# Altium schematic symbol library SnapEDAsch.SchLib: 1 symbol
Pins are listed as number, name and electrical type; pins without a type are passive.

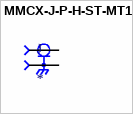
[diagram p0: symbol MMCX-J-P-H-ST-MT1]

## MMCX-J-P-H-ST-MT1
designator J
MMCX STRAIGHT, MIXED TECHNOLOGY JACK- 50 OHM; MP: MMCX-J-P-H-ST-MT1; MF: Samtec Inc.; Value: *; Availability: Unavailable; Package: None; Price: None
footprint SAMTEC_MMCX-J-P-H-ST-MT1
pins: 1, S1 2, S2 2, S3 2, S4 2